# EAGLE library part WE-RJ45_7499110120A (library Wurth_Signal & Communications_WE-RJ45_LAN)
WE-RJ45 LAN Transformer Characteristics RJ45 Connector with integrated transformer / common mode choke Power over Ethernet up to 50 Watt and speeds up to 10 Gbit/s Available in SMD, THT and THT with USB Compliant with standards: IEEE 802.3u, IEEE 802.3ab, IEEE 802.3af, IEEE 802.3at, IEEE 802.3an and upcoming IEE 802.3bt Applications Suitable for industrial temperatures from –40 °C up to +85 °C Compatible to Industrial Ethernet systems like EtherCAT or Profinet Compliant with most IC’s for Ethernet applications such as Microchip, Texas Instruments, Broadcom, Linear Technology Hubs, Routers, Switches, IP cameras, IoT applications <https://www.we-online.com/components/media/o35731v209%20Family-WE-RJ45LAN-7499xxxxxx.jpg> Details see: www.we-online.com/components/products/WE-LAN-RJ45 <www.we-online.com/catalog/WE-LAN-RJ45/?utm_source=eagle_model&utm_medium=description_link&utm_campaign=eisos_eagle> Updated by Ella Wu 2019-08-05 2019 (C) Wurth Elektronik
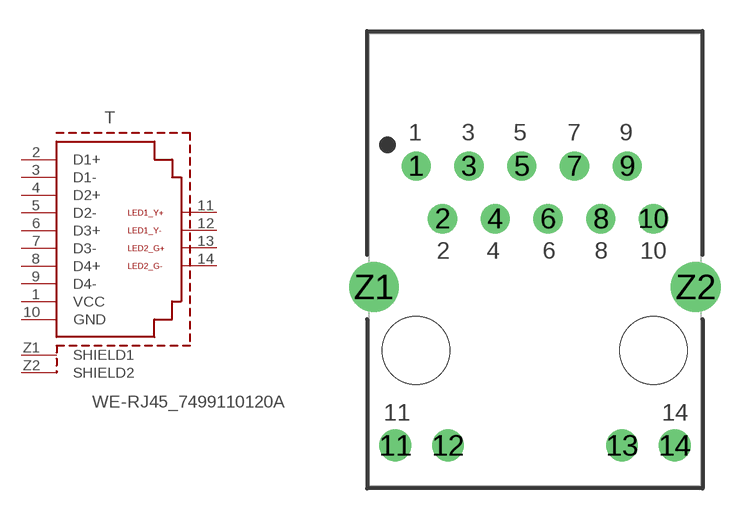
[diagram p43: symbol with the pads of 7499110120A; footprint 7499110120A]

Designator prefix T

## WE-RJ45_7499110120A (DATA-RATE: 10/100/1000 Base-T; DATASHEET-URL: https://www.we-online.com/redexpert/spec/7499110120A?ae; LED: yellow-green; MOUNT: THT; PART-NUMBER: 7499110120A; POE: non-PoE; PORTS: 1; USB: No; VALUE: 7499110120A)  [7499110120A]
1  VCC  pas
2  D1+  pas
3  D1-  pas
4  D2+  pas
5  D2-  pas
6  D3+  pas
7  D3-  pas
8  D4+  pas
9  D4-  pas
10  GND  pas
11  LED1_Y+  pas
12  LED1_Y-  pas
13  LED2_G+  pas
14  LED2_G-  pas
Z1  SHIELD1  pas
Z2  SHIELD2  pas

## Footprint 7499110120A (pad centres in mm)
WE-RJ45 LAN Transformer 10/100/1000 Base-T
drill 0.9: 1 -5.715,8.89; 2 -4.445,6.35; 3 -3.175,8.89; 4 -1.905,6.35; 5 -0.635,8.89; 6 0.635,6.35; 7 1.905,8.89; 8 3.175,6.35; 9 4.445,8.89; 10 5.715,6.35
drill 1.02: 11 -6.73,-4.57; 12 -4.19,-4.57; 13 4.19,-4.57; 14 6.73,-4.57
drill 1.6: Z1 -7.745,3.05; Z2 7.745,3.05
hole 3.25 at -5.715,0
hole 3.25 at 5.715,0